# EAGLE library part 6180XX325223_618026325223 (library 618015233821_Eagle_WR-DSUB_rev20a)
WR-DSUB Female High Density Angled PCB Connector w/o Hex Screw Kind Properties :Quality Class:3 as per CECC 75 301-802 Gender:Female Type:Angled Insulator Material:PBT Insulator Flammability Rating:UL94 V-0 Color:Black Contact Material:Copper Alloy Contact Plating:Selective Gold Contact Type:Stamped Shielding Material:Steel Shielding Plating:Nickel General Information Operating Temperature:-55 up to +105 °C Compliance:RoHS Electrical Properties IR 1:3 A Working Voltage:60V (AC) Withstanding Voltage:1000 V (AC) Contact Resistance:30 mΩ <https://www.we-online.com/catalog/media/o33091v209%20Family_WR-DSUB_6180xx325223.jpg> Details see: https://www.we-online.com/catalog/en/DSUB_FEMALE_HIGH_DENSITY_ANGLED_PCB_CONNECTOR_W_O_HEX_SCREW_6180XX325223/ Updated by Yingchun, Shan 2020-01-14 2020 (C) Würth Elektronik
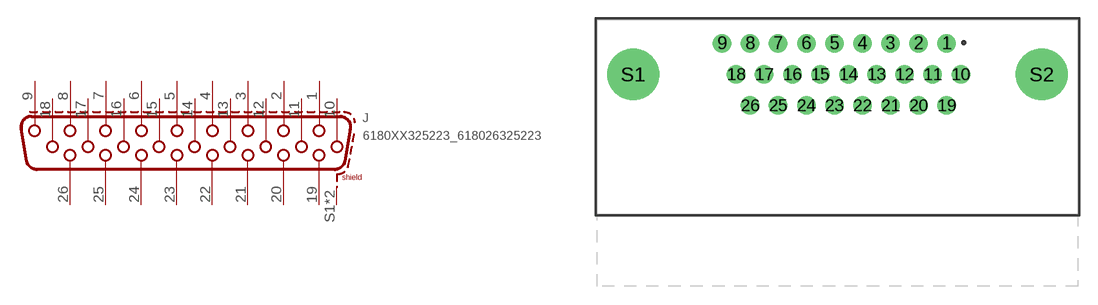
[diagram p23: symbol with the pads of 618026325223; footprint 618026325223]

Designator prefix J

## 6180XX325223_618026325223 (DATASHEET-URL: https://www.we-online.com/catalog/datasheet/618026325223.pdf; GENDER: Female; MATES-WITH: WR-DSUB Male High Density Angled PCB Connector w. Hex Screw/Male High Density Angled PCB Connector w/o Hex Screw; PART-NUMBER: 618026325223; PINS: 26; TYPE: Angled; WE-NUMBER: 618026325223)  [618026325223]
1  1
2  2
3  3
4  4
5  5
6  6
7  7
8  8
9  9
10  10
11  11
12  12
13  13
14  14
15  15
16  16
17  17
18  18
19  19
20  20
21  21
22  22
23  23
24  24
25  25
26  26
S1  SHIELD
S2  SHIELD

## Footprint 618026325223 (pad centres in mm)
WR-DSUB Female High Density Angled PCB Connector w/o Hex Screw , 26 Pins
drill 1: 1 8.906,8.97; 2 6.616,8.97; 3 4.326,8.97; 4 2.036,8.97; 5 -0.254,8.97; 6 -2.544,8.97; 7 -4.834,8.97; 8 -7.124,8.97; 9 -9.414,8.97; 10 10.051,6.43; 11 7.761,6.43; 12 5.471,6.43; 13 3.181,6.43; 14 0.891,6.43; 15 -1.399,6.43; 16 -3.689,6.43; 17 -5.979,6.43; 18 -8.269,6.43; 19 8.906,3.89; 20 6.616,3.89; 21 4.326,3.89; 22 2.036,3.89; 23 -0.254,3.89; 24 -2.544,3.89; 25 -4.834,3.89; 26 -7.124,3.89
drill 3.2: S1 -16.66,6.43; S2 16.66,6.43